# Altium footprint library 滑动开关.PcbLib: 2 footprints
Each footprint in its own frame and in the unit in brackets; x right, y up, seen from the top. Pads: shape width x height; smd on the part's side, far side on the other; paste and mask are expansions set on the pad; w line width, h text height; cw(c..) or ccw(c..) is an arc to the next point about the centre after c.
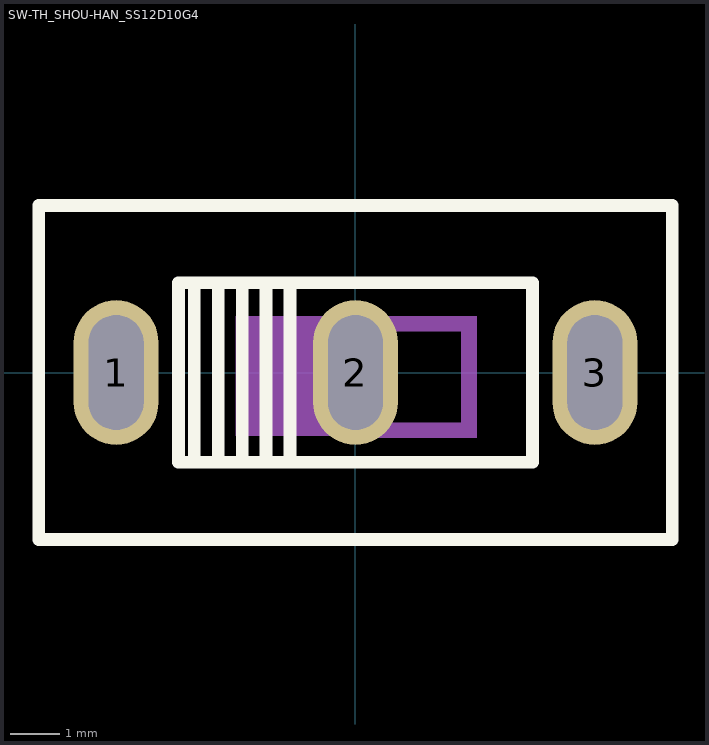
[diagram p0: the footprints below, top view; thin cyan lines are the x and y axes]

## PCBComponent_1 [mm]

## SW-TH_SHOU-HAN_SS12D10G4 [mm]
pads (3):
  oval 1.7x2.9 hole 1.1 slot 2.3 at 90 deg paste+0 mask+0.05: 1(-4.8,0) 2(0,0) 3(4.8,0)
Top Overlay:
  lines w0.254: -3.242,-1.8 -3.233,-1.8 -3.233,1.8 ; -2.762,-1.8 -2.753,-1.8 -2.753,1.8 ; -2.283,-1.8 -2.273,-1.8 -2.273,1.8 ; -1.803,-1.8 -1.793,-1.8 -1.793,1.8 ; -1.314,1.8 -1.314,-1.8 -1.257,-1.8 ; 2.317,1.8 2.74,1.8 ; 2.45,1.8 -3.55,1.8 -3.55,-1.8 3.55,-1.8 3.55,1.3 3.55,1.8 2.55,1.8 ; -6.35,-3.35 6.35,-3.35 6.35,3.35 -6.35,3.35 -6.35,-3.35
Mechanical 6:
  region: -0.019,-1.301 -0.019,1.099 -0.019,1.137 0.284,1.137 0.284,-1.303 0.184,-1.303
  region: -0.021,-1.007 2.379,-1.007 2.417,-1.007 2.417,-1.311 -0.023,-1.311 -0.023,-1.21
  region: 2.124,-1.311 2.124,1.089 2.124,1.127 2.428,1.127 2.428,-1.313 2.327,-1.313
  region: -0.013,1.129 2.387,1.129 2.425,1.129 2.425,0.826 -0.015,0.826 -0.015,0.926
  region: -2.4,1.13 0,1.13 0,-1.27 -2.4,-1.27
Mechanical 15:
  region: 4.4,0.65 5.2,0.65 5.2,-0.65 4.4,-0.65
  region: -0.4,0.65 0.4,0.65 0.4,-0.65 -0.4,-0.65
  region: -5.2,0.65 -4.4,0.65 -4.4,-0.65 -5.2,-0.65
  region: -6.29,-3.35 -6.29,-3.325 -6.325,-3.29 -6.375,-3.29 -6.41,-3.325 -6.41,-3.35 -6.41,-3.375 -6.375,-3.41 -6.325,-3.41 -6.29,-3.375 -6.29,-3.35
  lines w0.051: -6.35,-3.35 6.35,-3.35 6.35,3.35 -6.35,3.35 -6.35,-3.35